# Altium footprint library 222_4943_RES.PcbLib: 1 footprints
Each footprint in its own frame and in the unit in brackets; x right, y up, seen from the top. Pads: shape width x height; smd on the part's side, far side on the other; paste and mask are expansions set on the pad; w line width, h text height; cw(c..) or ccw(c..) is an arc to the next point about the centre after c.
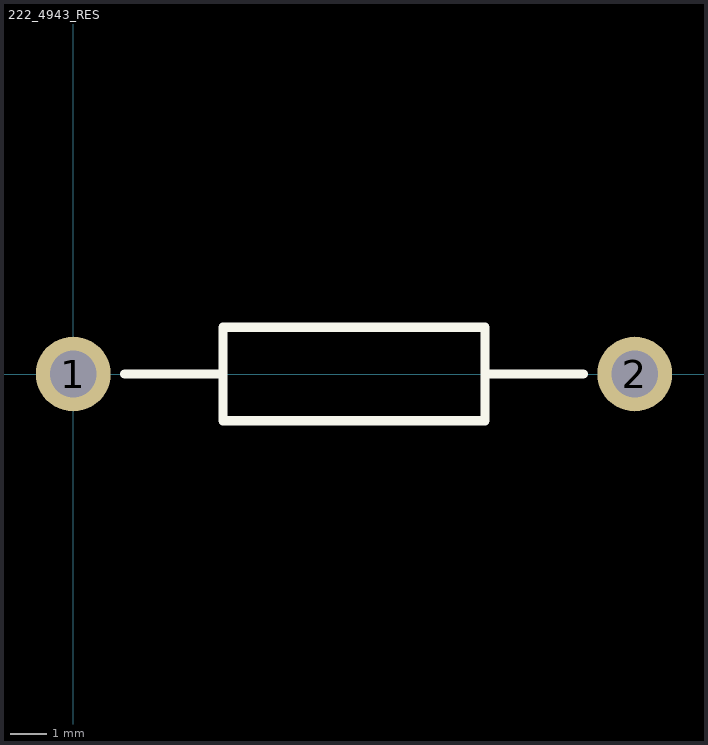
[diagram p0: the footprint, top view; thin cyan lines are the x and y axes]

## 222_4943_RES [mil]
height 120
pads (2):
  round 80 hole 50: 1(0,0) 2(600,0)
Top Overlay:
  lines w10: 55,0 160,0 ; 440,0 545,0 ; 160,-50 160,50 440,50 440,-50 160,-50
3D body: height 120, standoff 0, extent -40,-55 640,55